# EAGLE library part SSW-109-02-S-Q (library con-samtec)
THROUGH-HOLE .025" SQ POST SOCKET Source: Samtec SSW.pdf
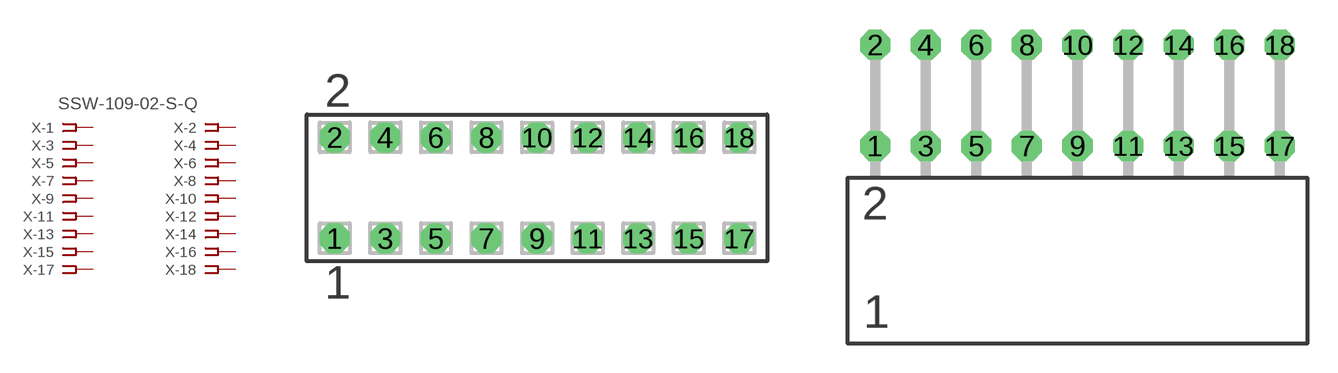
[diagram p139: symbol with the pads of SSW-109-02-S-Q; footprints SSW-109-02-S-Q, SSW-109-02-S-Q-RA]

Designator prefix X; gates -1=FPINV -2=FPIN -3=FPIN -4=FPIN -5=FPIN -6=FPIN -7=FPIN -8=FPIN -9=FPIN -10=FPIN -11=FPIN -12=FPIN -13=FPIN -14=FPIN -15=FPIN -16=FPIN -17=FPIN -18=FPIN

## SSW-109-02-S-Q (MPN: SSW-109-02-S-Q; OC_FARNELL: unknown; OC_NEWARK: 82P4798)  [SSW-109-02-S-Q]
1  -1:1  pas
2  -2:1  pas
3  -3:1  pas
4  -4:1  pas
5  -5:1  pas
6  -6:1  pas
7  -7:1  pas
8  -8:1  pas
9  -9:1  pas
10  -10:1  pas
11  -11:1  pas
12  -12:1  pas
13  -13:1  pas
14  -14:1  pas
15  -15:1  pas
16  -16:1  pas
17  -17:1  pas
18  -18:1  pas

## SSW-109-02-S-QRA (MPN: SSW-109-02-S-Q-RA; OC_FARNELL: unknown; OC_NEWARK: 82P4799)  [SSW-109-02-S-Q-RA]
Pads as for SSW-109-02-S-Q

## Footprint SSW-109-02-S-Q (pad centres in mm)
THROUGH-HOLE .025" SQ POST SOCKET Source: Samtec SSW.pdf
drill 1 pad 1.5 octagon: 1 -10.16,-2.54; 2 -10.16,2.54; 3 -7.62,-2.54; 4 -7.62,2.54; 5 -5.08,-2.54; 6 -5.08,2.54; 7 -2.54,-2.54; 8 -2.54,2.54; 9 0,-2.54; 10 0,2.54; 11 2.54,-2.54; 12 2.54,2.54; 13 5.08,-2.54; 14 5.08,2.54; 15 7.62,-2.54; 16 7.62,2.54; 17 10.16,-2.54; 18 10.16,2.54

## Footprint SSW-109-02-S-Q-RA (pad centres in mm)
THROUGH-HOLE .025" SQ POST SOCKET Source: Samtec SSW.pdf
drill 1 pad 1.5 octagon: 1 -10.16,1.524; 2 -10.16,6.604; 3 -7.62,1.524; 4 -7.62,6.604; 5 -5.08,1.524; 6 -5.08,6.604; 7 -2.54,1.524; 8 -2.54,6.604; 9 0,1.524; 10 0,6.604; 11 2.54,1.524; 12 2.54,6.604; 13 5.08,1.524; 14 5.08,6.604; 15 7.62,1.524; 16 7.62,6.604; 17 10.16,1.524; 18 10.16,6.604